# Altium footprint library ABM8272T3.PcbLib: 1 footprints
Each footprint in its own frame and in the unit in brackets; x right, y up, seen from the top. Pads: shape width x height; smd on the part's side, far side on the other; paste and mask are expansions set on the pad; w line width, h text height; cw(c..) or ccw(c..) is an arc to the next point about the centre after c.
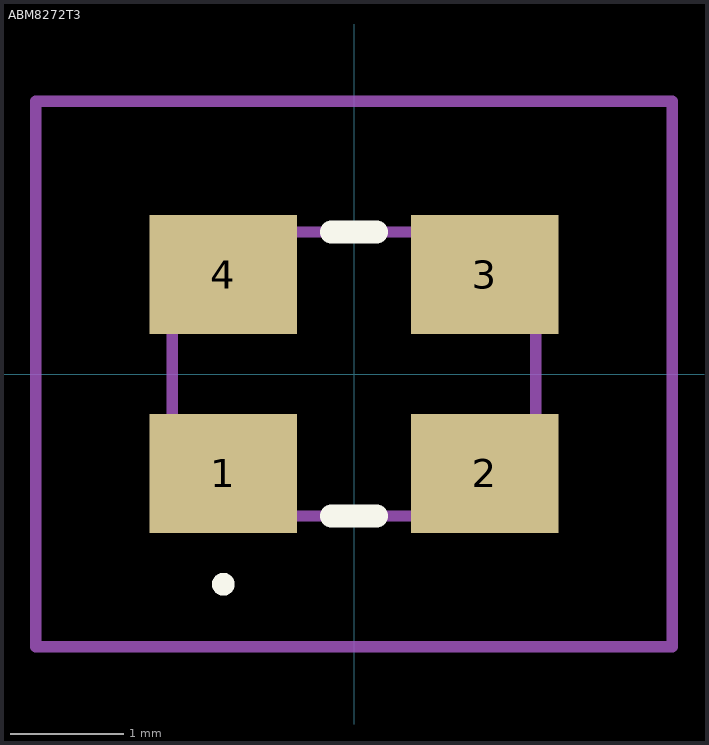
[diagram p0: the footprint, top view; thin cyan lines are the x and y axes]

## ABM8272T3 [mm]
pads (4):
  rect 1.3x1.05 smd: 1(-1.15,-0.875) 2(1.15,-0.875) 3(1.15,0.875) 4(-1.15,0.875)
Top Overlay:
  lines w0.1: -1.15,-1.9 cw(c-1.15,-1.85) -1.15,-1.8 cw(c-1.15,-1.85) -1.15,-1.9
  lines w0.2: -0.2,-1.25 0.2,-1.25 ; -0.2,1.25 0.2,1.25
Mechanical 15:
  lines w0.1: -1.6,-1.25 -1.6,1.25 1.6,1.25 1.6,-1.25 -1.6,-1.25
Mechanical 20:
  lines w0.1: -2.8,-2.4 -2.8,2.4 2.8,2.4 2.8,-2.4 -2.8,-2.4
3D body "ABM8-272-T3.stp": height 0.49, standoff -0.26, extent -1.6,-1.25 1.6,1.25